# Altium footprint library Z80-ays.PcbLib: 17 footprints (part 2 of 2)
Each footprint in its own frame and in the unit in brackets; x right, y up, seen from the top. Pads: shape width x height; smd on the part's side, far side on the other; paste and mask are expansions set on the pad; w line width, h text height; cw(c..) or ccw(c..) is an arc to the next point about the centre after c.
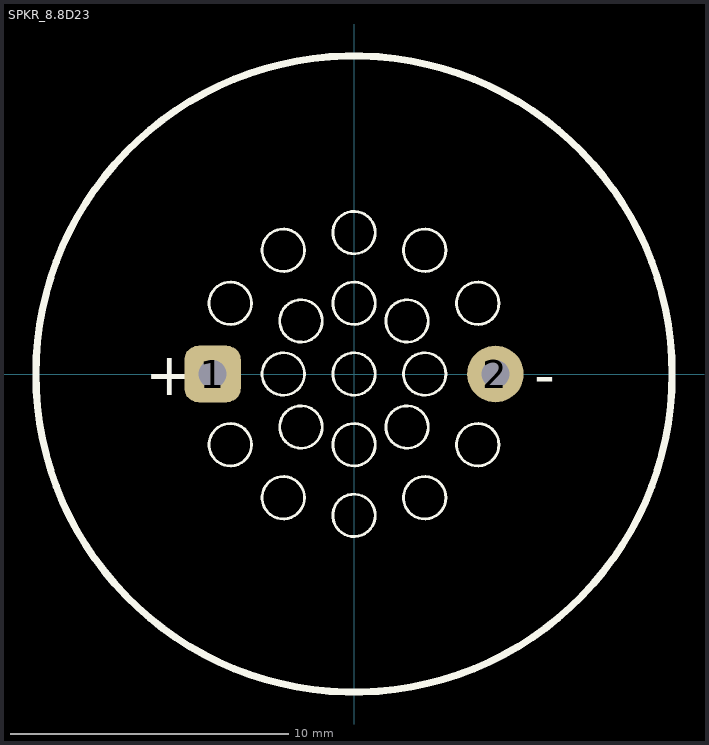
[diagram p1: the footprint, top view; thin cyan lines are the x and y axes]

## SPKR_8.8D23 [mil]
pads (2):
  rrect50% 80x80 hole 40: 1(-200,0)
  round 80 hole 40: 2(200,0)
Top Overlay:
  circle w4: c-100,-175 r30
  circle w4: c-175,-100 r30
  circle w4: c-175,100 r30
  circle w4: c-100,175 r30
  circle w4: c100,175 r30
  circle w4: c175,100 r30
  circle w4: c175,-100 r30
  circle w4: c100,-175 r30
  circle w4: c-100,0 r30
  circle w4: c100,0 r30
  circle w4: c0,-200 r30
  circle w4: c0,200 r30
  circle w4: c75,-75 r30
  circle w4: c-75,-75 r30
  circle w4: c75,75 r30
  circle w4: c-75,75 r30
  circle w4: c0,100 r30
  circle w4: c0,-100 r30
  circle w4: c0,0 r30
  circle w10: c0,0 r450
  text "+" at -295,-30 h60
  text "-" at 255,-30 h60